# Altium schematic symbol library Composants_Projet_Sheet_Full.SCHLIB: 53 symbols
Pins are listed as number, name and electrical type; pins without a type are passive.

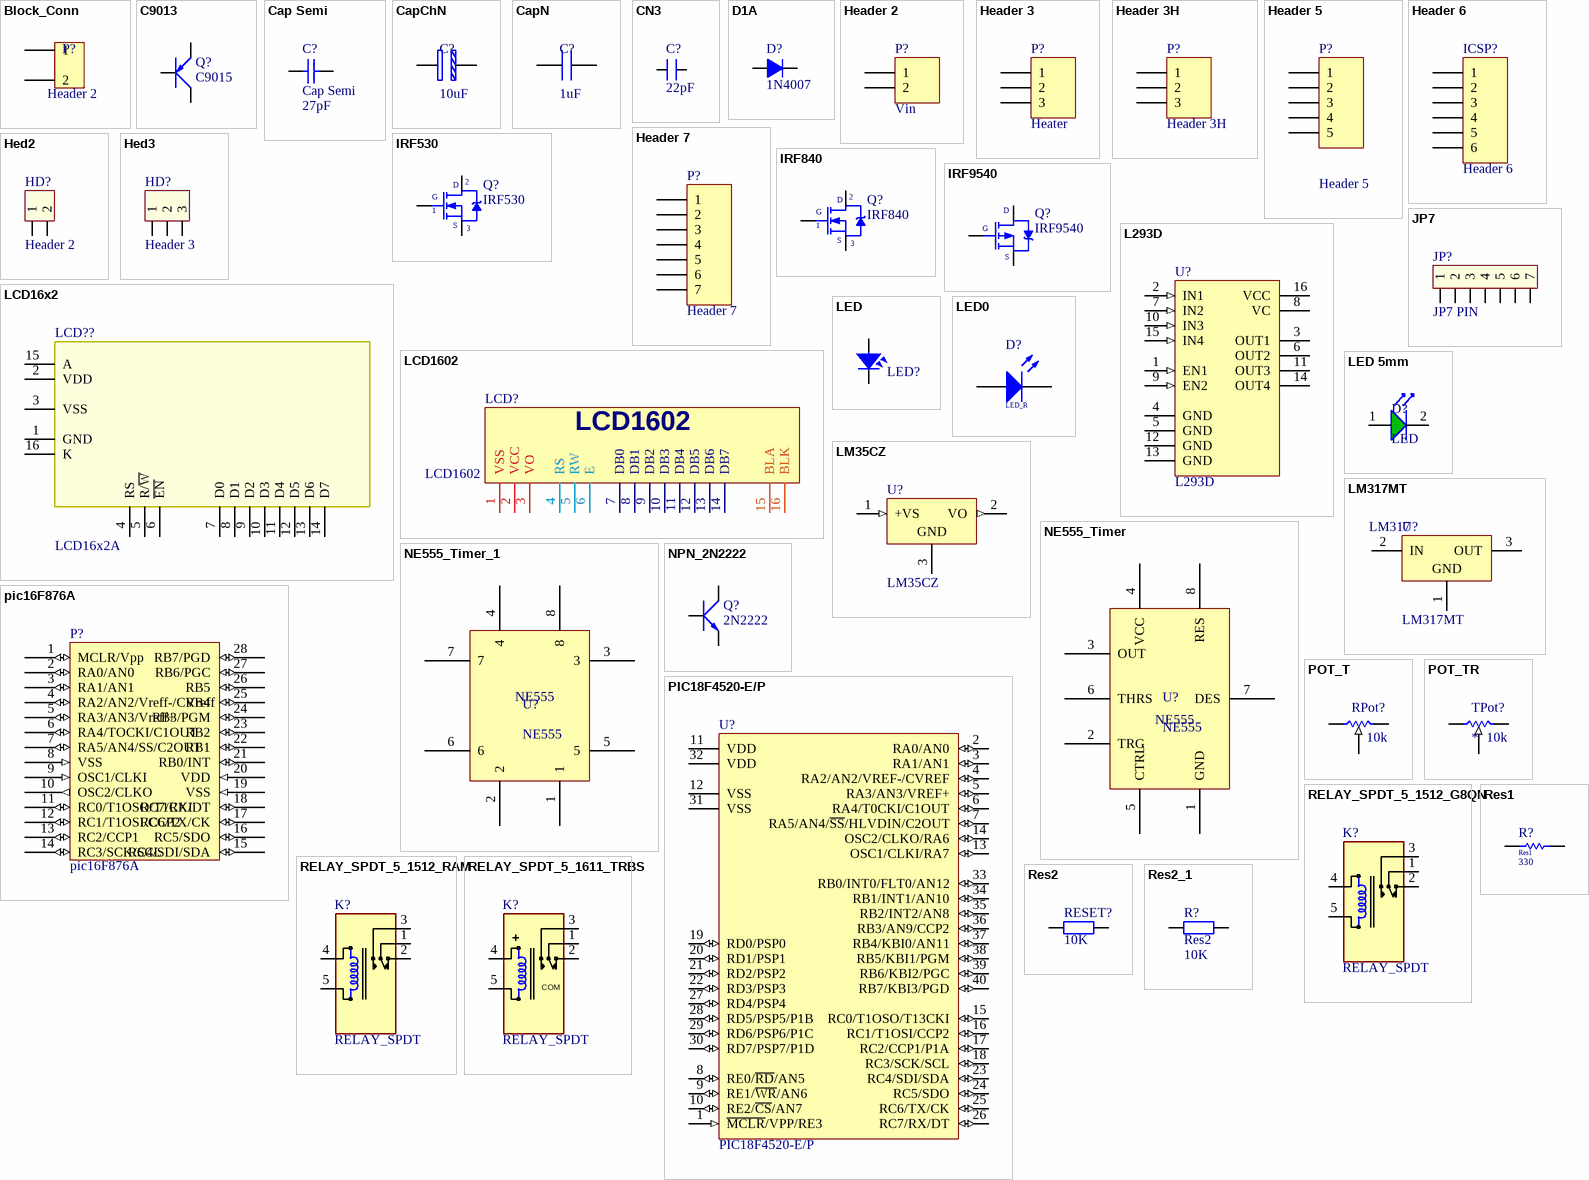
[diagram p0: symbols Block_Conn to Res2_1]

## Block_Conn
designator P?, comment Header 2
Header 2 pins; Foootprint: Header 2 Pins; Value: Header 2
footprint CONNECTOR-B2 (HEADER 2PINS)
pins: 1 (power), 2 (power)

## C9013
designator Q?, comment C9015
PNP 600mW, EBC; Value: C9015
footprint QTO-92 (TO-92)
pins: 1 E, 2 B, 3 C

## Cap Semi
designator C?  value 27pF
Capacitor (Semiconductor SIM Model); Published: 8-Jun-2000; LatestRevisionDate: 29-May-2009; LatestRevisionNote: IPC-7351 Footprint Added.; PackageReference: C1206; Publisher: Altium Limited; PackageDescription: Chip Capacitor
simulation model CAP (Semiconductor Capacitor)
signal-integrity model Cap Semi
footprint C1206
pins: 1, 2

## CapChN
designator C?, comment value 10uF  (hidden comment: CapCh10u)
Footprint: CapCh10uF
footprint Capacitor_Ch
pins: 1, 2

## CapN
designator C?, comment value 1uF  (hidden comment: CapN03)
Footprint: 03
footprint Capacitor
pins: 1, 2

## CN3
designator C?, comment value 22pF  (hidden comment: Cap Cer)
Cap np W0.3
footprint CN3 (Cap np W 0.3)
pins: 1, 2

## D1A
designator D?, comment 1N4007
Diode 1A; Value: 1N4007
footprint D1A (Diode 1A, W 100mil, L 350mil)
footprint D2A (Diode 2A, W 150mil, L 450mil)
pins: 1 A, 2 K

## Header 2
designator P?, comment Vin
Header, 2-Pin; LatestRevisionDate: 17-Jul-2002; LatestRevisionNote: Re-released for DXP Platform.; Publisher: Altium Limited
footprint HDR1X2 (Connector; Header; 2 Position)
pins: 1, 2

## Header 3
designator P?, comment Heater
Header, 3-Pin; LatestRevisionDate: 17-Jul-2002; LatestRevisionNote: Re-released for DXP Platform.; Publisher: Altium Limited
footprint HDR1X3
pins: 1, 2, 3

## Header 3H
designator P?
Header, 3-Pin, Right Angle; LatestRevisionDate: 17-Jul-2002; LatestRevisionNote: Re-released for DXP Platform.; Publisher: Altium Limited
footprint HDR1X3H (Connector; Header; 3 Position; Right Angle)
pins: 1, 2, 3

## Header 5
designator P?
Header, 5-Pin; LatestRevisionDate: 17-Jul-2002; LatestRevisionNote: Re-released for DXP Platform.; Publisher: Altium Limited
footprint HDR1X7 (Connector; Header; 7 Position)
signal-integrity model Connector
pins: 1, 2, 3, 4, 5

## Header 6
designator ICSP?
Header, 6-Pin; LatestRevisionDate: 17-Jul-2002; LatestRevisionNote: Re-released for DXP Platform.; Publisher: Altium Limited
footprint HDR1X6 (Connector; Header; 6 Position)
signal-integrity model Connector
footprint HDR1X6H (Connector; Header; 6 Position; Right Angle)
pins: 1, 2, 3, 4, 5, 6

## Header 7
designator P?
Header, 7-Pin; LatestRevisionDate: 17-Jul-2002; LatestRevisionNote: Re-released for DXP Platform.; Publisher: Altium Limited
footprint HDR1X7 (Connector; Header; 7 Position)
signal-integrity model Connector
pins: 1, 2, 3, 4, 5, 6, 7

## Hed2
designator HD?, comment Header 2
Header 2 (Green); Value: Header 2
footprint HED2 (Header 2, 2 pin, hight 300mil, Pin to Pin 200, Colour Green)
footprint HED2T (Header 2, 2 pin, hight 300mil, Pin to Pin 200, Colour Green)
footprint HED2B (Header 2, 2 pin, hight 300mil, Pin to Pin 150, Colour White)
pins: 1, 2

## Hed3
designator HD?, comment Header 3
Header 3 (Green); Value: Header 3
footprint HED3 (Header 3, 3 pin, hight 300mil, Pin to Pin 200)
footprint HED3T (Header 3, 3 pin, hight 300mil, Pin to Pin 200, Colour Green)
footprint HED3B (Header 3, 3 pin, hight 300mil, Pin to Pin 150, Colour White)
pins: 1, 2, 3

## IRF530
designator Q?
MOSFET N - CHANNEL 500V - 0.75 - 8A - TO-220; Value: IRF530
footprint QTO-220 (TO-220 - 1-2-3)
pins: 1 G, 2 D, 3 S

## IRF840
designator Q?
MOSFET N - CHANNEL 500V - 0.75 - 8A - TO-220; Value: IRF840
footprint QTO-220 (TO-220 - 1-2-3)
pins: 1 G, 2 D, 3 S

## IRF9540
designator Q?
HEXFET P-Channel Power MOSFET; Note: Pin 2 is electrically connected to pin 4.; Published: 8-Jun-2000; LatestRevisionDate: 17-Jul-2002; LatestRevisionNote: Re-released for DXP Platform.; DatasheetVersion: PD-9.421C; PackageVersion: Feb-1997; PackageReference: TO-220AB; Publisher: Altium Limited; PackageDescription: TO, Thru-Hole, Vertical, Heatsink Mounted; 3 In-Line Leads; Pitch 2.54 mm; ComponentLink1Description: Manufacturer Link; ComponentLink1URL: http://www.irf.com/; ComponentLink2Description: Datasheet; ComponentLink2URL: http://www.irf.com/product-info/datasheets/data/irf9540.pdf
footprint QTO-220 (TO-220 - 1-2-3)
simulation model IRF9540 (SUBCKT)
pins: 1 G, 2 D, 3 S

## JP7
designator JP?, comment JP7 PIN
Value: JP7
footprint JP7
footprint JP7H
pins: 1, 2, 3, 4, 5, 6, 7

## L293D
designator U?
Push-Pull Four Channel Driver With Diode; Published: 8-Jun-2000; LatestRevisionDate: 06-Jun-2005; LatestRevisionNote: Stylized 3D Model Added.; DatasheetVersion: Jun-1996; PackageVersion: Apr-1996; PackageReference: DIP16; Publisher: Altium Limited; PackageDescription: DIP; 16 Leads; Row Spacing 7.62 mm; Pitch 2.54 mm; ComponentLink1Description: Manufacturer Link; ComponentLink1URL: http://www.st.com/; ComponentLink2Description: Datasheet; ComponentLink2URL: http://www.st.com/stonline/products/literature/ds/1330/l293d.pdf
footprint DIP16 (DIP; 16 Leads; Row Spacing 7.62 mm; Pitch 2.54 mm)
3D model DIP16 (DIP; 16 Leads; Row Spacing 7.62 mm; Pitch 2.54 mm)
footprint DIP16
pins: 1 EN1 (in), 2 IN1 (in), 3 OUT1 (hiz), 4 GND (power), 5 GND (power), 6 OUT2 (hiz), 7 IN2 (in), 8 VC (power), 9 EN2 (in), 10 IN3 (in), 11 OUT3 (hiz), 12 GND (power), 13 GND (power), 14 OUT4 (hiz), 15 IN4 (in), 16 VCC (power)

## LCD16x2
designator LCD??, comment LCD16x2A
LCD dipslay 16 char, 2 line; Value: LCD16x2A
footprint LCD16X2N (LCD dipslay 16x2, 16 pin)
footprint LCD16X2 (LCD dipslay 16x2, 16 pin)
pins: 1 GND, 2 VDD, 3 VSS, 4 RS, 5 R/~{W}, 6 ~{EN}, 7 D0, 8 D1, 9 D2, 10 D3, 11 D4, 12 D5, 13 D6, 14 D7, 15 A, 16 K

## LCD1602
designator LCD?
footprint LCD1602
pins: 1 VSS, 2 VCC, 3 VO, 4 RS, 5 RW, 6 E, 7 DB0, 8 DB1, 9 DB2, 10 DB3, 11 DB4, 12 DB5, 13 DB6, 14 DB7, 15 BLA, 16 BLK

## LED
designator LED?  (value not drawn)
LED Single colour Green and Red; Value: LED 3 ly Single Colour
footprint LED-5-BLUE (LED 2 PIN, 5 ly , Only colour, pin to pin 110mil)
footprint LED-5-Green (LED 2 PIN, 5 ly , Only colour,pin to pin 100mil)
footprint LED-5-RED (LED 2 PIN, 5 ly , Only colour,pin to pin 100mil)
footprint LED-5-WHITE (LED 2 PIN, 5 ly , Only colour, pin to pin 110mil)
footprint LED-5-Yellow (LED 2 PIN, 5 ly , Only colour,pin to pin 100mil)
footprint LED-3 (LED 2 PIN, 3ly Only colour)
pins: 1, 2

## LED0
designator D?, comment LED_R
Typical INFRARED GaAs LED; Published: 8-Jun-2000; LatestRevisionDate: 08-Jul-2005; LatestRevisionNote: Mech Layer 1 removed.; PackageReference: LED-0; Publisher: Altium Limited; PackageDescription: LED; 2 Leads
footprint LED-0 (LED; 2 Leads)
simulation model LED0 (Diode)
footprint 1206 (Chip Capacitor; Body 3.2 x 1.6 mm (LxW typ))
footprint J1-0603 (Chip Resistor, Body 1.6x0.8mm, IPC High Density)
footprint 0603 (Chip Inductor, Body 0.6x0.3mm, IPC High Density)
footprint J1-0603 (Chip Resistor, Body 1.6x0.8mm, IPC High Density)
footprint 0603 (Chip Inductor, Body 0.6x0.3mm, IPC High Density)
footprint 0402 (Chip Capacitor, Body 1.0x0.5mm, IPC High Density)
footprint C1206 (Chip Capacitor, Body 3.2x1.6mm, IPC High Density)
footprint 0603 (Chip Inductor, Body 0.6x0.3mm, IPC High Density)
pins: 1 A, 2 K

## LED 5mm
designator D?, comment LED
Footprint: *
footprint LED 5mm
pins: 1 A, 2 K

## LM35CZ
designator U?
Precision Centigrade Temperature Sensor, 3-pin TO-92; Manufacturer: National Semiconductor; PackageTopMarking: NSXYTT*LM35*CZ; PowerWise: N; CompType: Temp Sensor IC; Published: 4-Dec-2008; LatestRevisionDate: 15-Jul-2009; LatestRevisionNote: Sch pins 1 & 3 reversed.; DatasheetVersion: Nov-2000; PackageVersion: revG, Sep-2000; PackageReference: Z03A; Publisher: Altium Limited; PackageDescription: TO-92, Molded, 3 Lead; Supplier 1: Farnell; Supplier Part Number 1: 9488197; PartNumber: LM35CZ; RoHS: N; PinCount: 3; Code_JEDEC: TO-226-AA; ComponentLink1Description: LM35 Datasheet; ComponentLink1URL: http://www.national.com/ds/LM/LM35.pdf; ComponentLink2Description: LM35 Web Page; ComponentLink2URL: http://www.national.com/pf/LM/LM35.html; ComponentLink3Description: Z03A Package Page; ComponentLink3URL: http://www.national.com/packaging/folders/z03a.html
footprint Z03A (TO, Flat Index; 3 In-Line, Axial Leads; Body Dia. 5mm; Leads 0.55 x 0.50 mm (max))
pins: 1 +VS (in), 2 VO (out), 3 GND (power)

## LM317MT
designator U?  Foootprint: LM317
Regulator Voltage
footprint TO220V
pins: 1 ADJ, 2 IN, 3 OUT
text: GND

## NE555_Timer
designator U?, comment NE555
Foootprint: NE555
footprint NE555_DIP8
pins: 1 GND, 2 TRG, 3 OUT, 4 VCC, 5 CTRL, 6 THRS, 7 DES, 8 RES

## NE555_Timer_1
designator U?, comment NE555
Foootprint: NE555
footprint NE555_DIP8
pins: 1, 2, 3, 4, 5, 6, 7, 8

## NPN_2N2222
designator Q?, comment 2N2222
P 600mW, EBC; Value: 2N2222
footprint QTO-92 (TO-92)
pins: 1 E, 2 B, 3 C

## pic16F876A
designator P?
Header, 2-Pin; LatestRevisionDate: 17-Jul-2002; LatestRevisionNote: Re-released for DXP Platform.; Publisher: Altium Limited
signal-integrity model Connector
footprint SOIC_28
pins: 1 MCLR/Vpp (io), 2 RA0/AN0 (io), 3 RA1/AN1 (io), 4 RA2/AN2/Vreff-/CVreff (io), 5 RA3/AN3/Vreff+ (io), 6 RA4/TOCKI/C1OUT (io), 7 RA5/AN4/SS/C2OUT (io), 8 VSS (in), 9 OSC1/CLKI (in), 10 OSC2/CLKO (out), 11 RC0/T1OSO/T1CKI (io), 12 RC1/T1OSI/CCP2 (io), 13 RC2/CCP1 (io), 14 RC3/SCK/SCL (io), 15 RC4/SDI/SDA (io), 16 RC5/SDO (io), 17 RC6/TX/CK (io), 18 RC7/RX/DT (io), 19 VSS (in), 20 VDD (in), 21 RB0/INT (io), 22 RB1 (io), 23 RB2 (io), 24 RB3/PGM (io), 25 RB4 (io), 26 RB5 (io), 27 RB6/PGC (io), 28 RB7/PGD (io)

## PIC18F4520-E/P
designator U?
Enhanced Flash Microcontroller with 10-Bit A/D and nanoWatt Technology, 32K Flash, 40-Pin PDIP, Extended Temperature Range; Published: 29-Jan-2009; LatestRevisionDate: 02-Dec-2009; LatestRevisionNote: Updated to datasheet revision E, Oct-2008; DatasheetVersion: revE, Oct-2008; PackageVersion: revBB, Aug-2009; PackageReference: PDIP600-P40; Publisher: Altium Limited; PackageDescription: 40-Lead Plastic Dual In-Line (P) - 600 mil Body [PDIP]; Supplier 1: Digi-Key; Supplier Part Number 1: PIC18F4520-E/P-ND; ComponentLink1Description: Datasheet; ComponentLink1URL: http://ww1.microchip.com/downloads/en/DeviceDoc/39631E.pdf; ComponentLink2Description: Packaging Specification; ComponentLink2URL: http://www.microchip.com/stellent/groups/techpub_sg/documents/packagingspec/en012702.pdf; ComponentLink3Description: Microchip.com Home; ComponentLink3URL: http://www.microchip.com/
footprint PIC18F-P40
pins: 1 ~{MCLR}/VPP/RE3 (in), 2 RA0/AN0 (io), 3 RA1/AN1 (io), 4 RA2/AN2/VREF-/CVREF (io), 5 RA3/AN3/VREF+ (io), 6 RA4/T0CKI/C1OUT (io), 7 RA5/AN4/~{SS}/HLVDIN/C2OUT (io), 8 RE0/~{RD}/AN5 (io), 9 RE1/~{WR}/AN6 (io), 10 RE2/~{CS}/AN7 (io), 11 VDD (power), 12 VSS (power), 13 OSC1/CLKI/RA7 (io), 14 OSC2/CLKO/RA6 (io), 15 RC0/T1OSO/T13CKI (io), 16 RC1/T1OSI/CCP2 (io), 17 RC2/CCP1/P1A (io), 18 RC3/SCK/SCL (io), 19 RD0/PSP0 (io), 20 RD1/PSP1 (io), 21 RD2/PSP2 (io), 22 RD3/PSP3 (io), 23 RC4/SDI/SDA (io), 24 RC5/SDO (io), 25 RC6/TX/CK (io), 26 RC7/RX/DT (io), 27 RD4/PSP4 (io), 28 RD5/PSP5/P1B (io), 29 RD6/PSP6/P1C (io), 30 RD7/PSP7/P1D (io), 31 VSS (power), 32 VDD (power), 33 RB0/INT0/FLT0/AN12 (io), 34 RB1/INT1/AN10 (io), 35 RB2/INT2/AN8 (io), 36 RB3/AN9/CCP2 (io), 37 RB4/KBI0/AN11 (io), 38 RB5/KBI1/PGM (io), 39 RB6/KBI2/PGC (io), 40 RB7/KBI3/PGD (io)

## POT_T
designator RPot?  value 10k  (hidden comment: *)
Footprint: RPot_V
footprint POTENTIOMETER_Tr
pins: 1, 2 (in), 3

## POT_TR
designator TPot?  value 10k
Footprint: Pot Trimmer
footprint POTENTIOMETER_N_Trimmer
pins: 1, 2 (in), 3

## RELAY_SPDT_5_1512_G8QN
designator K?, comment RELAY_SPDT
Relay, SPDT, 5P, 15.4X12.1mm, 16V/30A; MANF: OMRON; MANF_P#: G8QN-1C4 DC12; PARAM2: 16VDC, 30A; PARAM: 12V, 50mA; PRICE: PRICE; Value: RELAY_SPDT
footprint REL_SPDT_5_1512 (RELAY, SPDT, 15.40x12.10x14.0mm, G8QN, SUN HOLD RAM)
simulation model SPDTRELAY (Spice Subcircuit)
pins: 1 COM, 2 NC, 3 NO, 4 T1, 5 T2

## RELAY_SPDT_5_1512_RAM
designator K?, comment RELAY_SPDT
Relay, SPDT, 5P, 15.4X12.1mm, 14V/20A; MANF: SUN HOLD; MANF_P#: RAM-1C-12; PARAM2: 14V, 20A; PARAM: 12V, 50mA; PRICE: PRICE; Value: RELAY_SPDT
footprint REL_SPDT_5_1512 (RELAY, SPDT, 15.40x12.10x14.0mm, G8QN, SUN HOLD RAM)
simulation model SPDTRELAY (Spice Subcircuit)
pins: 1 COM, 2 NC, 3 NO, 4 T1, 5 T2

## RELAY_SPDT_5_1611_TRBS
designator K?, comment RELAY_SPDT
Relay, SPDT, 5P, 15.5X11mm, TRB 125VAC/1A; MANF: TTI; MANF_P#: TRBS-6VDC-SA-CL; PARAM2: 1A, 125VAC/30VDC; PARAM: 12V, 17mA, 720Ohm; PRICE: -; Value: RELAY_SPDT
footprint REL_SPDT_5_1611 (Footprint not found)
simulation model SPDTRELAY (Spice Subcircuit)
pins: 1 COM, 2 NC, 3 NO, 4 T1, 5 T2

## Res1
designator R?  value 330
Resistor; Published: 8-Jun-2000; LatestRevisionDate: 17-Jul-2002; LatestRevisionNote: Re-released for DXP Platform.; PackageReference: AXIAL-0.3; Publisher: Altium Limited; PackageDescription: Axial Device, Thru-Hole; 2 Leads; 0.3 in Pin Spacing
simulation model RESISTOR (Resistor)
footprint SMD R0603
pins: 1, 2

## Res2
designator RESET?  value 10K  (hidden comment: Res2)
Resistor; Published: 8-Jun-2000; LatestRevisionDate: 17-Jul-2002; LatestRevisionNote: Re-released for DXP Platform.; PackageReference: AXIAL-0.4; Publisher: Altium Limited; PackageDescription: Axial Device, Thru-Hole; 2 Leads; 0.4 in Pin Spacing
footprint Res
simulation model RESISTOR (Resistor)
signal-integrity model Res
pins: 1, 2

## Res2_1
designator R?, comment Res2  value 10K
Resistor; Published: 8-Jun-2000; LatestRevisionDate: 17-Jul-2002; LatestRevisionNote: Re-released for DXP Platform.; PackageReference: AXIAL-0.4; Publisher: Altium Limited; PackageDescription: Axial Device, Thru-Hole; 2 Leads; 0.4 in Pin Spacing
simulation model RESISTOR (Resistor)
signal-integrity model Res
footprint SMD R1206
pins: 1, 2

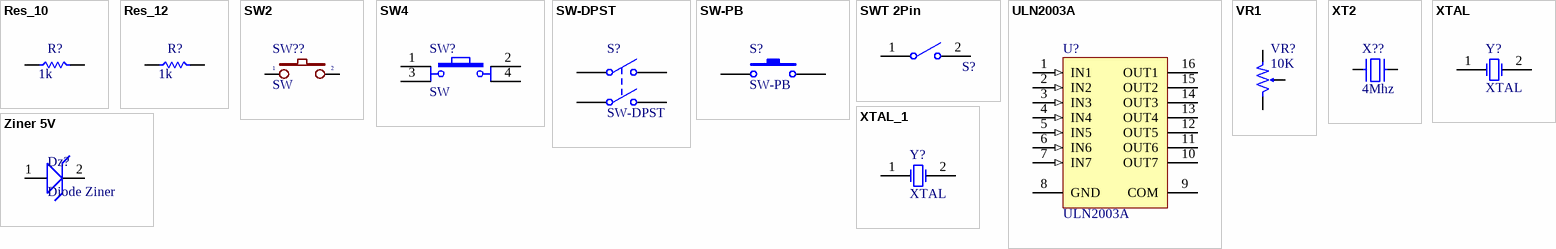
[diagram p1: symbols Res_10 to Ziner 5V]

## Res_10
designator R?  value 1k  (hidden comment: *)
Footprint: Res10mm
footprint ResistorN 10mm
pins: 1, 2

## Res_12
designator R?  value 1k  (hidden comment: *)
Footprint: Res12mm
footprint ResistorN 12mm - duplicate
pins: 1, 2

## SW2
designator SW??, comment SW
Switch button 2 pin; Value: SW chip 2 pin
footprint SW2 (SW button 2pin, 250x 250 mil)
pins: 1, 2

## SW4
designator SW?, comment SW
Switch button 4 pin; Value: Button chip 4 pin
footprint SW4 (SW button 4pin, 250 x250 mil)
footprint SW4B (SW button 4pin, 450 x 450 mil)
pins: 1, 2, 3, 4

## SW-DPST
designator S?
Double-Pole, Single-Throw Switch; Published: 24-Mar-1999; LatestRevisionDate: 17-Jul-2002; LatestRevisionNote: Re-released for DXP Platform.; PackageReference: DPST-4; Publisher: Altium Limited; PackageDescription: Switch; 4 Leads
footprint DPST-4 (Switch; 4 Leads)
pins: 1 COMMON1, 2 NO1, 3 COMMON2, 4 NO2

## SW-PB
designator S?
Switch; Published: 24-Mar-1999; LatestRevisionDate: 17-Jul-2002; LatestRevisionNote: Re-released for DXP Platform.; PackageReference: SPST-2; Publisher: Altium Limited; PackageDescription: Switch; 2 Leads
footprint SPST-2 (Switch; 2 Leads)
pins: 1, 2

## SWT 2Pin
designator S?  (value not drawn)
6x3.5mm SMD WS-TASV, height 5 mm, 360 gf; Part Number: 434121050836; Rated Current: 50 mA; Operation Force: 360 gf; Rated Voltage: 12 VDC; ComponentLink1Description: Manufacturer; ComponentLink1URL: http://www.we-online.de; ComponentLink2Description: Datasheet; ComponentLink2URL: http://katalog.we-online.de/em/datasheet/4341x1xxx8x6.pdf; Published Date: Nov. 2017; Publisher: Wurth Elektronik; Life Cycle: 50000; Operating Temperature: -40 to +85 degC; Size: 6x3.5x5 mm
footprint SWT 2Pin
pins: 1, 2

## ULN2003A
designator U?
High-Voltage, High-Current Darlington Array; Published: 13-Oct-2000; LatestRevisionDate: 06-Jun-2005; LatestRevisionNote: Stylized 3D Model Added.; DatasheetVersion: 1998; PackageVersion: 1998; PackageReference: A16; Publisher: Altium Limited; PackageDescription: DIP; 16 Leads; Row Spacing 7.62 mm; Pitch 2.54 mm; Code_JEDEC: MS-001-BB; ComponentLink1Description: Manufacturer Link; ComponentLink1URL: http://www.allegromicro.com/
footprint A16 (DIP; 16 Leads; Row Spacing 7.62 mm; Pitch 2.54 mm)
3D model A16 (DIP; 16 Leads; Row Spacing 7.62 mm; Pitch 2.54 mm)
footprint A16
pins: 1 IN1 (in), 2 IN2 (in), 3 IN3 (in), 4 IN4 (in), 5 IN5 (in), 6 IN6 (in), 7 IN7 (in), 8 GND (power), 9 COM, 10 OUT7 (oc), 11 OUT6 (oc), 12 OUT5 (oc), 13 OUT4 (oc), 14 OUT3 (oc), 15 OUT2 (oc), 16 OUT1 (oc)

## VR1
designator VR?, comment 10K
Var Resistor; Value: VR 10K
footprint VR1
footprint VR (Resistor Variable)
footprint VR2
pins: 1, 2, 3

## XT2
designator X??, comment 4Mhz
Crystal For all Crystal 2pin.; Value: 4Mhz
footprint XT2 (Footpin for Crystal 2 pin)
footprint XT2N (Crystal 2pin, high 200 mil)
pins: 1, 2

## XTAL
designator Y?
Crystal Oscillator; Published: 8-Jun-2000; LatestRevisionDate: 17-Jul-2002; LatestRevisionNote: Re-released for DXP Platform.; PackageReference: R38; Publisher: Altium Limited; PackageDescription: Crystal, Thru-Hole; 2 Leads; Body 3.1 x 8.2 mm (Dia.xH)
footprint R38 (Crystal, Thru-Hole; 2 Leads; Body 3.1 x 8.2 mm (Dia.xH))
simulation model XTAL (Spice Subcircuit)
pins: 1 OSC1, 2 OSC2

## XTAL_1
designator Y?, comment XTAL
Crystal Oscillator; Published: 8-Jun-2000; LatestRevisionDate: 17-Jul-2002; LatestRevisionNote: Re-released for DXP Platform.; PackageReference: R38; Publisher: Altium Limited; PackageDescription: Crystal, Thru-Hole; 2 Leads; Body 3.1 x 8.2 mm (Dia.xH)
footprint R38 (Crystal, Thru-Hole; 2 Leads; Body 3.1 x 8.2 mm (Dia.xH))
simulation model XTAL (Spice Subcircuit)
footprint XTAL
footprint XTAL
pins: 1 OSC1, 2 OSC2

## Ziner 5V
designator Dz?, comment Diode Ziner
Footprint: Diode Ziner 5V
footprint Diode Ziner 5V
pins: 1 A, 2 C